# EAGLE library part 5M570ZT100 (library ic-Altera)
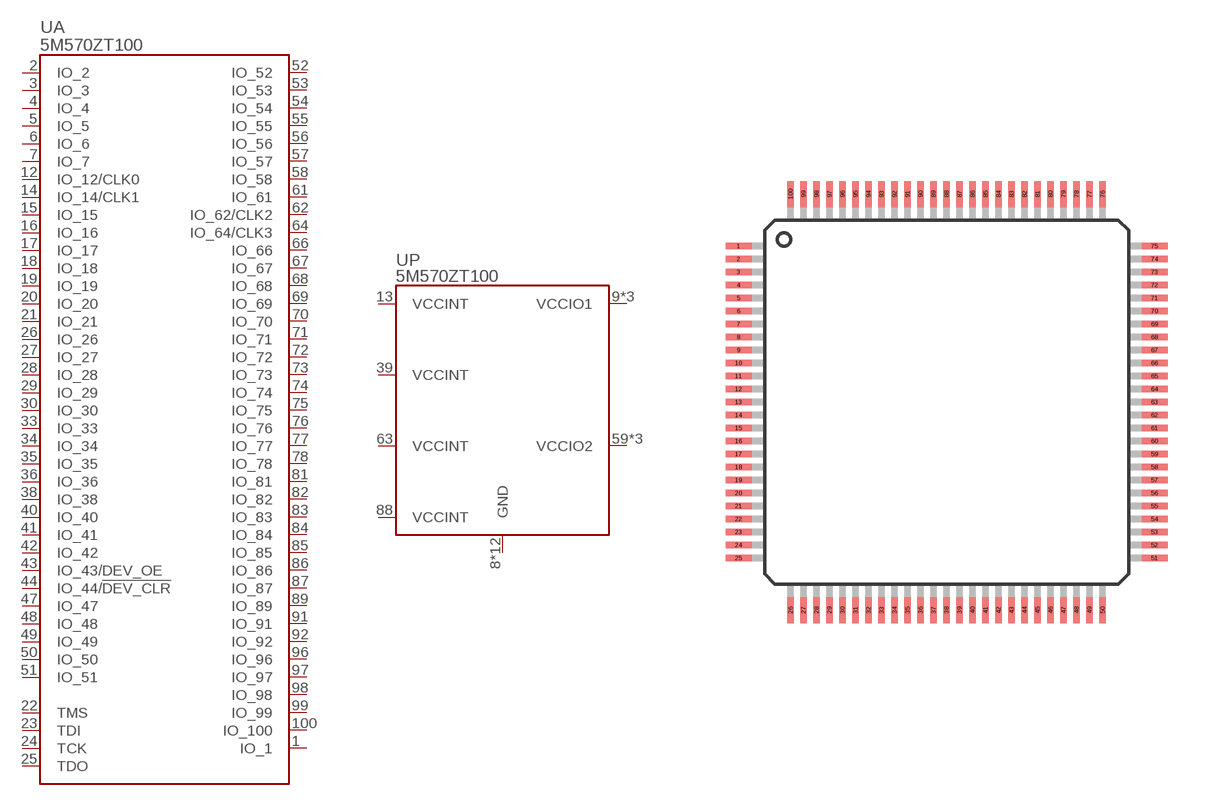
[diagram p5: symbol with the pads of QFP100-0.5; footprint QFP100-0.5]

Designator prefix U; gates A=5M570ZT100_A P=5M570ZT100_POWER

## 5M570ZT100  [QFP100-0.5]
1  A:IO_1
2  A:IO_2
3  A:IO_3
4  A:IO_4
5  A:IO_5
6  A:IO_6
7  A:IO_7
8  P:GND
9  P:VCCIO1
10  P:GND
11  P:GND
12  A:IO_12/CLK0
13  P:VCCINT
14  A:IO_14/CLK1
15  A:IO_15
16  A:IO_16
17  A:IO_17
18  A:IO_18
19  A:IO_19
20  A:IO_20
21  A:IO_21
22  A:TMS
23  A:TDI
24  A:TCK
25  A:TDO
26  A:IO_26
27  A:IO_27
28  A:IO_28
29  A:IO_29
30  A:IO_30
31  P:VCCIO1
32  P:GND
33  A:IO_33
34  A:IO_34
35  A:IO_35
36  A:IO_36
37  P:GND
38  A:IO_38
39  P:VCCINT
40  A:IO_40
41  A:IO_41
42  A:IO_42
43  A:IO_43/DEV_OE
44  A:IO_44/!DEV_CLR!
45  P:VCCIO1
46  P:GND
47  A:IO_47
48  A:IO_48
49  A:IO_49
50  A:IO_50
51  A:IO_51
52  A:IO_52
53  A:IO_53
54  A:IO_54
55  A:IO_55
56  A:IO_56
57  A:IO_57
58  A:IO_58
59  P:VCCIO2
60  P:GND
61  A:IO_61
62  A:IO_62/CLK2
63  P:VCCINT
64  A:IO_64/CLK3
65  P:GND
66  A:IO_66
67  A:IO_67
68  A:IO_68
69  A:IO_69
70  A:IO_70
71  A:IO_71
72  A:IO_72
73  A:IO_73
74  A:IO_74
75  A:IO_75
76  A:IO_76
77  A:IO_77
78  A:IO_78
79  P:GND
80  P:VCCIO2
81  A:IO_81
82  A:IO_82
83  A:IO_83
84  A:IO_84
85  A:IO_85
86  A:IO_86
87  A:IO_87
88  P:VCCINT
89  A:IO_89
90  P:GND
91  A:IO_91
92  A:IO_92
93  P:GND
94  P:VCCIO2
95  P:GND
96  A:IO_96
97  A:IO_97
98  A:IO_98
99  A:IO_99
100  A:IO_100

## Footprint QFP100-0.5 (pad centres in mm)
smd 1 x 0.25: 1 -8,6; 2 -8,5.5; 3 -8,5; 4 -8,4.5; 5 -8,4; 6 -8,3.5; 7 -8,3; 8 -8,2.5; 9 -8,2; 10 -8,1.5; 11 -8,1; 12 -8,0.5; 13 -8,0; 14 -8,-0.5; 15 -8,-1; 16 -8,-1.5; 17 -8,-2; 18 -8,-2.5; 19 -8,-3; 20 -8,-3.5; 21 -8,-4; 22 -8,-4.5; 23 -8,-5; 24 -8,-5.5; 25 -8,-6; 51 8,-6; 52 8,-5.5; 53 8,-5; 54 8,-4.5; 55 8,-4; 56 8,-3.5; 57 8,-3; 58 8,-2.5; 59 8,-2; 60 8,-1.5; 61 8,-1; 62 8,-0.5; 63 8,0; 64 8,0.5; 65 8,1; 66 8,1.5; 67 8,2; 68 8,2.5; 69 8,3; 70 8,3.5; 71 8,4; 72 8,4.5; 73 8,5; 74 8,5.5; 75 8,6
smd 0.25 x 1: 26 -6,-8; 27 -5.5,-8; 28 -5,-8; 29 -4.5,-8; 30 -4,-8; 31 -3.5,-8; 32 -3,-8; 33 -2.5,-8; 34 -2,-8; 35 -1.5,-8; 36 -1,-8; 37 -0.5,-8; 38 0,-8; 39 0.5,-8; 40 1,-8; 41 1.5,-8; 42 2,-8; 43 2.5,-8; 44 3,-8; 45 3.5,-8; 46 4,-8; 47 4.5,-8; 48 5,-8; 49 5.5,-8; 50 6,-8; 76 6,8; 77 5.5,8; 78 5,8; 79 4.5,8; 80 4,8; 81 3.5,8; 82 3,8; 83 2.5,8; 84 2,8; 85 1.5,8; 86 1,8; 87 0.5,8; 88 0,8; 89 -0.5,8; 90 -1,8; 91 -1.5,8; 92 -2,8; 93 -2.5,8; 94 -3,8; 95 -3.5,8; 96 -4,8; 97 -4.5,8; 98 -5,8; 99 -5.5,8; 100 -6,8